# Altium integrated library WE_WR-TBL_Rising Cage System_3.50 mm_rev15b.IntLib: 28 symbols
Pins are listed as number, name and electrical type; pins without a type are passive.

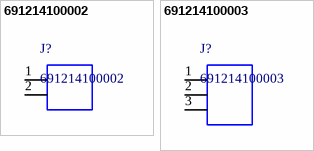
[diagram p0: symbols 691214100002 to 691214100003]

## 691214100002
designator J?
WR-TBL Terminal Blocks Serie 2141 - 3.50 mm; Manufacturer: Wurth Elektronik; ComponentLink1 Description: Manufacturer; ComponentLink2 Description: Datasheet; ComponentLink1URL: http://www.we-online.de; Created by: Baojun Chen; Created Date: 8.Sep.2015; partNo: 691214100002
footprint 691214100002 (Serie 2141 - 3.50 mm _ 2 pins)
pins: 1, 2

## 691214100003
designator J?
WR-TBL Terminal Blocks Serie 2141 - 3.50 mm; Manufacturer: Wurth Elektronik; ComponentLink1 Description: Manufacturer; ComponentLink2 Description: Datasheet; ComponentLink1URL: http://www.we-online.de; Created by: Baojun Chen; Created Date: 8.Sep.2015; partNo: 691214100003
footprint 691214100003 (Serie 2141 - 3.50 mm _ 3 pins)
pins: 1, 2, 3


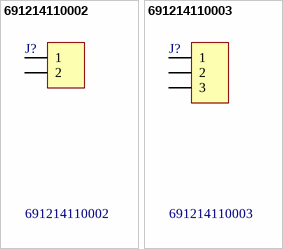
[diagram p1: symbols 691214110002 to 691214110003]

## 691214110002
designator J?
WR-TBL Terminal Blocks Serie 2141 - 3.50 mm with Rising Cage Clamp; Manufacturer: Würth Elektronik eiSos GmbH; ComponentLink1 Description: Manufacturer; ComponentLink2 Description: Datasheet; NoPins: 2; Created Date: 8 Novenber 2013; partNo: 691214110002; ComponentLink1URL: http://www.we-online.com; ComponentLink2URL: http://katalog.we-online.de/em/datasheet/6912141100xx.pdf; Created by: Karrer Zheng
footprint 691214110002 (3,50mm - Horizontal wire entry - Rising cage clamp - 02p)
pins: 1, 2

## 691214110003
designator J?
WR-TBL Terminal Blocks Serie 2141 - 3.50 mm with Rising Cage Clamp; Manufacturer: Würth Elektronik eiSos GmbH; ComponentLink1 Description: Manufacturer; ComponentLink2 Description: Datasheet; NoPins: 3; Created Date: 8 Novenber 2013; partNo: 691214110003; ComponentLink1URL: http://www.we-online.com; ComponentLink2URL: http://katalog.we-online.de/em/datasheet/6912141100xx.pdf; Created by: Karrer Zheng
footprint 691214110003 (3,50mm - Horizontal wire entry - Rising cage clamp - 03p)
pins: 1, 2, 3


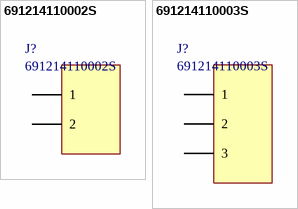
[diagram p2: symbols 691214110002S to 691214110003S]

## 691214110002S
designator J?
Horizontal Cable Entry with Rising Cage Clamp, Serie 2141S - 3.50 mm; Manufacturer: Wurth Elektronik; ComponentLink1 Description: Manufacturer; ComponentLink2 Description: Datasheet; NoPins: 2; ComponentLink1 URL: http://www.we-online.com; ComponentLink2 URL: http://katalog.we-online.de/em/datasheet/6912141100xxS.pdf; Created By: Baojun Chen; Created Date: 6-Aug-15; PartNo: 691214110002S
footprint 691214110002S (Serie 2141S - 3.50 mm _ 2 pins)
pins: 1, 2

## 691214110003S
designator J?
Horizontal Cable Entry with Rising Cage Clamp, Serie 2141S - 3.50 mm; Manufacturer: Wurth Elektronik; ComponentLink1 Description: Manufacturer; ComponentLink2 Description: Datasheet; NoPins: 3; ComponentLink1 URL: http://www.we-online.com; ComponentLink2 URL: http://katalog.we-online.de/em/datasheet/6912141100xxS.pdf; Created By: Baojun Chen; Created Date: 6-Aug-15; PartNo: 691214110003S
footprint 691214110003S (Serie 2141S - 3.50 mm _ 3 pins)
pins: 1, 2, 3


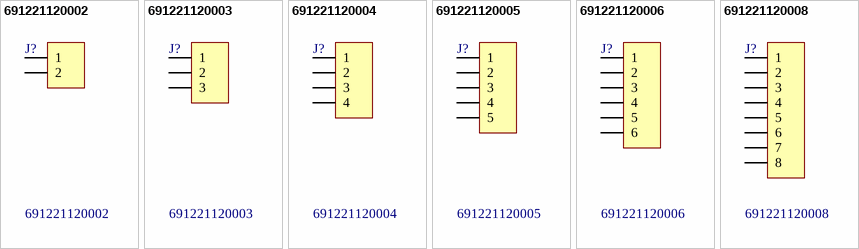
[diagram p3: symbols 691221120002 to 691221120008]

## 691221120002
designator J?
WR-TBL Terminal Blocks Serie 2211 - 3.50 mm; Manufacturer: Würth Elektronik eiSos GmbH; ComponentLink1 Description: Manufacturer; ComponentLink2 Description: Datasheet; NoPins: 2; Created Date: 14 Novenber 2013; partNo: 691221120002; ComponentLink1URL: http://www.we-online.com; ComponentLink2URL: http://katalog.we-online.de/em/datasheet/6912211200xx.pdf; Created by: Karrer Zheng
footprint 691221120002 (3,50mm - modular - green - 55° wire entry - Cage clamp - 02p)
pins: 1, 2

## 691221120003
designator J?
WR-TBL Terminal Blocks Serie 2211 - 3.50 mm; Manufacturer: Würth Elektronik eiSos GmbH; ComponentLink1 Description: Manufacturer; ComponentLink2 Description: Datasheet; NoPins: 3; Created Date: 14 Novenber 2013; partNo: 691221120003; ComponentLink1URL: http://www.we-online.com; ComponentLink2URL: http://katalog.we-online.de/em/datasheet/6912211200xx.pdf; Created by: Karrer Zheng
footprint 691221120003 (3,50mm - modular - green - 55° wire entry - Cage clamp - 03p)
pins: 1, 2, 3

## 691221120004
designator J?
WR-TBL Terminal Blocks Serie 2211 - 3.50 mm; Manufacturer: Würth Elektronik eiSos GmbH; ComponentLink1 Description: Manufacturer; ComponentLink2 Description: Datasheet; NoPins: 4; Created Date: 14 Novenber 2013; partNo: 691221120004; ComponentLink1URL: http://www.we-online.com; ComponentLink2URL: http://katalog.we-online.de/em/datasheet/6912211200xx.pdf; Created by: Karrer Zheng
footprint 691221120004 (3,50mm - modular - green - 55° wire entry - Cage clamp - 04p)
pins: 1, 2, 3, 4

## 691221120005
designator J?
WR-TBL Terminal Blocks Serie 2211 - 3.50 mm; Manufacturer: Würth Elektronik eiSos GmbH; ComponentLink1 Description: Manufacturer; ComponentLink2 Description: Datasheet; NoPins: 5; Created Date: 14 Novenber 2013; partNo: 691221120005; ComponentLink1URL: http://www.we-online.com; ComponentLink2URL: http://katalog.we-online.de/em/datasheet/6912211200xx.pdf; Created by: Karrer Zheng
footprint 691221120005 (3,50mm - modular - green - 55° wire entry - Cage clamp - 05p)
pins: 1, 2, 3, 4, 5

## 691221120006
designator J?
WR-TBL Terminal Blocks Serie 2211 - 3.50 mm; Manufacturer: Würth Elektronik eiSos GmbH; ComponentLink1 Description: Manufacturer; ComponentLink2 Description: Datasheet; NoPins: 6; Created Date: 14 Novenber 2013; partNo: 691221120006; ComponentLink1URL: http://www.we-online.com; ComponentLink2URL: http://katalog.we-online.de/em/datasheet/6912211200xx.pdf; Created by: Karrer Zheng
footprint 691221120006 (3,50mm - modular - green - 55° wire entry - Cage clamp - 06p)
pins: 1, 2, 3, 4, 5, 6

## 691221120008
designator J?
WR-TBL Terminal Blocks Serie 2211 - 3.50 mm; Manufacturer: Würth Elektronik eiSos GmbH; ComponentLink1 Description: Manufacturer; ComponentLink2 Description: Datasheet; NoPins: 8; Created Date: 14 Novenber 2013; partNo: 691221120008; ComponentLink1URL: http://www.we-online.com; ComponentLink2URL: http://katalog.we-online.de/em/datasheet/6912211200xx.pdf; Created by: Karrer Zheng
footprint 691221120008 (3,50mm - modular - green - 55° wire entry - Cage clamp - 08p)
pins: 1, 2, 3, 4, 5, 6, 7, 8


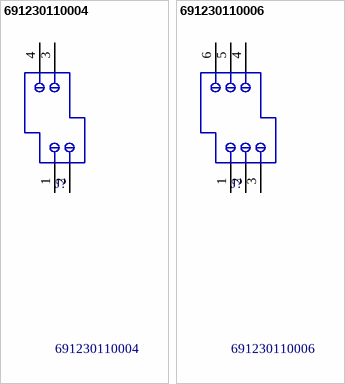
[diagram p4: symbols 691230110004 to 691230110006]

## 691230110004
designator J?
WR-TBL Terminal Blocks Serie 2301 - 3.50 mm with Rising Clamp; Manufacturer: Würth Elektronik eiSos GmbH; ComponentLink1 Description: Manufacturer; ComponentLink2 Description: Datasheet; NoPins: 4; Created Date: 8 Novenber 2013; partNo: 691230110004; ComponentLink1URL: http://www.we-online.com; ComponentLink2URL: http://katalog.we-online.de/em/datasheet/6912301100xx.pdf; Created by: Karrer Zheng
footprint 691230110004 (3,50mm - modular - 2 rows - Right - horizontal entry with rising cage clamp - 04p)
pins: 1, 2, 3, 4

## 691230110006
designator J?
WR-TBL Terminal Blocks Serie 2301 - 3.50 mm with Rising Clamp; Manufacturer: Würth Elektronik eiSos GmbH; ComponentLink1 Description: Manufacturer; ComponentLink2 Description: Datasheet; NoPins: 6; Created Date: 8 Novenber 2013; partNo: 691230110006; ComponentLink1URL: http://www.we-online.com; ComponentLink2URL: http://katalog.we-online.de/em/datasheet/6912301100xx.pdf; Created by: Karrer Zheng
footprint 691230110006 (3,50mm - modular - 2 rows - Right - horizontal entry with rising cage clamp - 06p)
pins: 1, 2, 3, 4, 5, 6


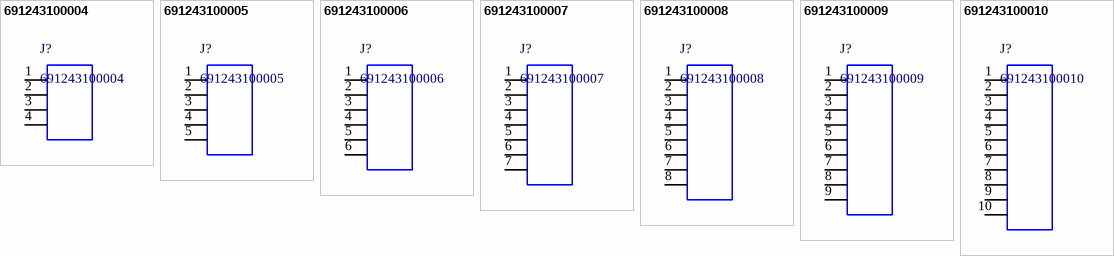
[diagram p5: symbols 691243100004 to 691243100010]

## 691243100004
designator J?
WR-TBL Terminal Blocks Serie 2431 - 3.50 mm; Manufacturer: Wurth Elektronik; ComponentLink1 Description: Manufacturer; ComponentLink2 Description: Datasheet; ComponentLink1URL: http://www.we-online.de; ComponentLink2URL: http://katalog.we-online.de/em/datasheet/6912431000XX.pdf; Created by: Baojun Chen; Created Date: 9.Sep.2015; partNo: 691243100004
footprint 691243100004 (Serie 2431 - 3.50 mm _ 4 pins)
pins: 1, 2, 3, 4

## 691243100005
designator J?
WR-TBL Terminal Blocks Serie 2431 - 3.50 mm; Manufacturer: Wurth Elektronik; ComponentLink1 Description: Manufacturer; ComponentLink2 Description: Datasheet; ComponentLink1URL: http://www.we-online.de; ComponentLink2URL: http://katalog.we-online.de/em/datasheet/6912431000XX.pdf; Created by: Baojun Chen; Created Date: 9.Sep.2015; partNo: 691243100005
footprint 691243100005 (Serie 2431 - 3.50 mm _ 5 pins)
pins: 1, 2, 3, 4, 5

## 691243100006
designator J?
WR-TBL Terminal Blocks Serie 2431 - 3.50 mm; Manufacturer: Wurth Elektronik; ComponentLink1 Description: Manufacturer; ComponentLink2 Description: Datasheet; ComponentLink1URL: http://www.we-online.de; ComponentLink2URL: http://katalog.we-online.de/em/datasheet/6912431000XX.pdf; Created by: Baojun Chen; Created Date: 9.Sep.2015; partNo: 691243100006
footprint 691243100006 (Serie 2431 - 3.50 mm _ 6 pins)
pins: 1, 2, 3, 4, 5, 6

## 691243100007
designator J?
WR-TBL Terminal Blocks Serie 2431 - 3.50 mm; Manufacturer: Wurth Elektronik; ComponentLink1 Description: Manufacturer; ComponentLink2 Description: Datasheet; ComponentLink1URL: http://www.we-online.de; ComponentLink2URL: http://katalog.we-online.de/em/datasheet/6912431000XX.pdf; Created by: Baojun Chen; Created Date: 9.Sep.2015; partNo: 691243100007
footprint 691243100007 (Serie 2431 - 3.50 mm _ 7 pins)
pins: 1, 2, 3, 4, 5, 6, 7

## 691243100008
designator J?
WR-TBL Terminal Blocks Serie 2431 - 3.50 mm; Manufacturer: Wurth Elektronik; ComponentLink1 Description: Manufacturer; ComponentLink2 Description: Datasheet; ComponentLink1URL: http://www.we-online.de; ComponentLink2URL: http://katalog.we-online.de/em/datasheet/6912431000XX.pdf; Created by: Baojun Chen; Created Date: 9.Sep.2015; partNo: 691243100008
footprint 691243100008 (Serie 2431 - 3.50 mm _ 8 pins)
pins: 1, 2, 3, 4, 5, 6, 7, 8

## 691243100009
designator J?
WR-TBL Terminal Blocks Serie 2431 - 3.50 mm; Manufacturer: Wurth Elektronik; ComponentLink1 Description: Manufacturer; ComponentLink2 Description: Datasheet; ComponentLink1URL: http://www.we-online.de; ComponentLink2URL: http://katalog.we-online.de/em/datasheet/6912431000XX.pdf; Created by: Baojun Chen; Created Date: 9.Sep.2015; partNo: 691243100009
footprint 691243100009 (Serie 2431 - 3.50 mm _ 9 pins)
pins: 1, 2, 3, 4, 5, 6, 7, 8, 9

## 691243100010
designator J?
WR-TBL Terminal Blocks Serie 2431 - 3.50 mm; Manufacturer: Wurth Elektronik; ComponentLink1 Description: Manufacturer; ComponentLink2 Description: Datasheet; ComponentLink1URL: http://www.we-online.de; ComponentLink2URL: http://katalog.we-online.de/em/datasheet/6912431000XX.pdf; Created by: Baojun Chen; Created Date: 9.Sep.2015; partNo: 691243100010
footprint 691243100010 (Serie 2431 - 3.50 mm _ 10 pins)
pins: 1, 2, 3, 4, 5, 6, 7, 8, 9, 10


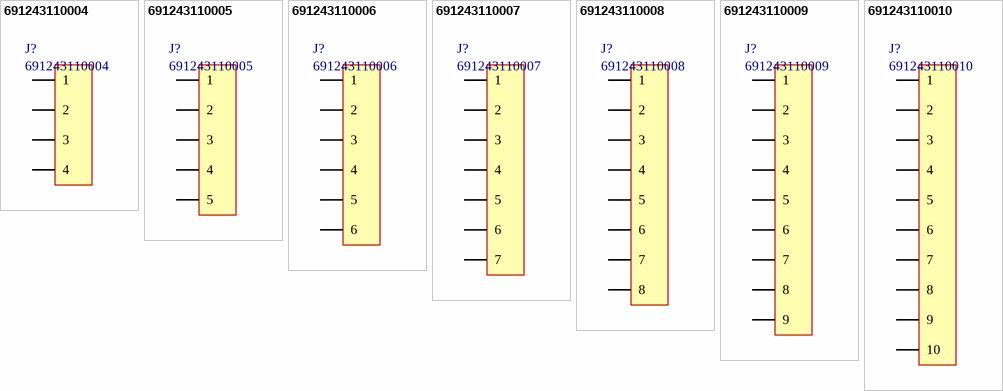
[diagram p6: symbols 691243110004 to 691243110010]

## 691243110004
designator J?
Horizontal Cable Entry with Rising Cage Clamp, Serie 2431 - 3.5 mm; Manufacturer: Wurth Elektronik; ComponentLink1 Description: Manufacturer; ComponentLink2 Description: Datasheet; NoPins: 4; ComponentLink1 URL: http://www.we-online.com; ComponentLink2 URL: http://katalog.we-online.de/em/datasheet/6912431100xx.pdf; Created By: Baojun Chen; Created Date: 27.Aug.2015; PartNo: 691243110004
footprint 691243110004 (Serie 2431 - 3.50 mm_4 pins)
pins: 1, 2, 3, 4

## 691243110005
designator J?
Horizontal Cable Entry with Rising Cage Clamp, Serie 2431 - 3.5 mm; Manufacturer: Wurth Elektronik; ComponentLink1 Description: Manufacturer; ComponentLink2 Description: Datasheet; NoPins: 5; ComponentLink1 URL: http://www.we-online.com; ComponentLink2 URL: http://katalog.we-online.de/em/datasheet/6912431100xx.pdf; Created By: Baojun Chen; Created Date: 27.Aug.2015; PartNo: 691243110005
footprint 691243110005 (Serie 2431 - 3.50 mm_5 pins)
pins: 1, 2, 3, 4, 5

## 691243110006
designator J?
Horizontal Cable Entry with Rising Cage Clamp, Serie 2431 - 3.5 mm; Manufacturer: Wurth Elektronik; ComponentLink1 Description: Manufacturer; ComponentLink2 Description: Datasheet; NoPins: 6; ComponentLink1 URL: http://www.we-online.com; ComponentLink2 URL: http://katalog.we-online.de/em/datasheet/6912431100xx.pdf; Created By: Baojun Chen; Created Date: 27.Aug.2015; PartNo: 691243110006
footprint 691243110006 (Serie 2431 - 3.50 mm_6 pins)
pins: 1, 2, 3, 4, 5, 6

## 691243110007
designator J?
Horizontal Cable Entry with Rising Cage Clamp, Serie 2431 - 3.5 mm; Manufacturer: Wurth Elektronik; ComponentLink1 Description: Manufacturer; ComponentLink2 Description: Datasheet; NoPins: 7; ComponentLink1 URL: http://www.we-online.com; ComponentLink2 URL: http://katalog.we-online.de/em/datasheet/6912431100xx.pdf; Created By: Baojun Chen; Created Date: 27.Aug.2015; PartNo: 691243110007
footprint 691243110007 (Serie 2431 - 3.50 mm_7 pins)
pins: 1, 2, 3, 4, 5, 6, 7

## 691243110008
designator J?
Horizontal Cable Entry with Rising Cage Clamp, Serie 2431 - 3.5 mm; Manufacturer: Wurth Elektronik; ComponentLink1 Description: Manufacturer; ComponentLink2 Description: Datasheet; NoPins: 8; ComponentLink1 URL: http://www.we-online.com; ComponentLink2 URL: http://katalog.we-online.de/em/datasheet/6912431100xx.pdf; Created By: Baojun Chen; Created Date: 27.Aug.2015; PartNo: 691243110008
footprint 691243110008 (Serie 2431 - 3.50 mm_8 pins)
pins: 1, 2, 3, 4, 5, 6, 7, 8

## 691243110009
designator J?
Horizontal Cable Entry with Rising Cage Clamp, Serie 2431 - 3.5 mm; Manufacturer: Wurth Elektronik; ComponentLink1 Description: Manufacturer; ComponentLink2 Description: Datasheet; NoPins: 9; ComponentLink1 URL: http://www.we-online.com; ComponentLink2 URL: http://katalog.we-online.de/em/datasheet/6912431100xx.pdf; Created By: Baojun Chen; Created Date: 27.Aug.2015; PartNo: 691243110009
footprint 691243110009 (Serie 2431 - 3.50 mm_9 pins)
pins: 1, 2, 3, 4, 5, 6, 7, 8, 9

## 691243110010
designator J?
Horizontal Cable Entry with Rising Cage Clamp, Serie 2431 - 3.5 mm; Manufacturer: Wurth Elektronik; ComponentLink1 Description: Manufacturer; ComponentLink2 Description: Datasheet; NoPins: 10; ComponentLink1 URL: http://www.we-online.com; ComponentLink2 URL: http://katalog.we-online.de/em/datasheet/6912431100xx.pdf; Created By: Baojun Chen; Created Date: 27.Aug.2015; PartNo: 691243110010
footprint 691243110010 (Serie 2431 - 3.50 mm_10 pins)
pins: 1, 2, 3, 4, 5, 6, 7, 8, 9, 10